# EAGLE library part B6B-EH (library con-jst-eh)
JST EH series header 2.50mm pitch disconnectable crimp style connectors, vertical (side entry type), 6 pins
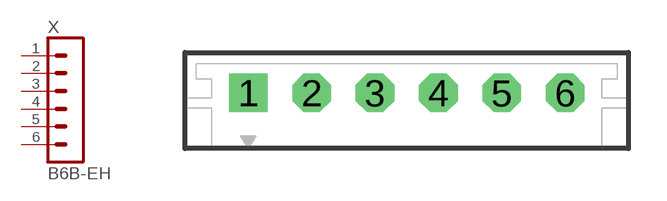
[diagram p0: symbol with the pads of B6B-EH-A; footprint B6B-EH-A]

Designator prefix X

## B6B-EH-A  [B6B-EH-A]
1  1  pas
2  2  pas
3  3  pas
4  4  pas
5  5  pas
6  6  pas

## Footprint B6B-EH-A (pad centres in mm)
JST EH series header 2.50mm pitch disconnectable crimp style connectors, vertical (top entry type), 6 pins
drill 0.9 pad 1.524 square: 1 -6.25,0
drill 0.9 pad 1.524 octagon: 2 -3.75,0; 3 -1.25,0; 4 1.25,0; 5 3.75,0; 6 6.25,0